# Altium integrated library GPA-EYE-105.IntLib: 1 symbol
Pins are listed as number, name and electrical type; pins without a type are passive.

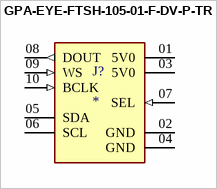
[diagram p0: symbol GPA-EYE-FTSH-105-01-F-DV-P-TR]

## GPA-EYE-FTSH-105-01-F-DV-P-TR
designator J?
MF: Samtec; MP: FTSH-105-01-F-DV-P-TR; Package: None; Price: None; Value: *; Availability: Unavailable; Supplier 1: Digi-Key; Supplier Part Number 1: SAM13161CT-ND; Supplier 2: Mouser; Supplier Part Number 2: 200-FTSH10501FDVPTR
footprint SAMTEC_FTSH-105-01-F-DV-P-TR
pins: 01 5V0 (power), 02 GND (power), 03 5V0 (power), 04 GND (power), 05 SDA (oc), 06 SCL (oc), 07 SEL (in), 08 DOUT (out), 09 WS (in), 10 BCLK (in)